# EAGLE library part 057-034- (library 1A-meinLib)
CONNECTOR 34-pin series 057 contact pc board low profile headers
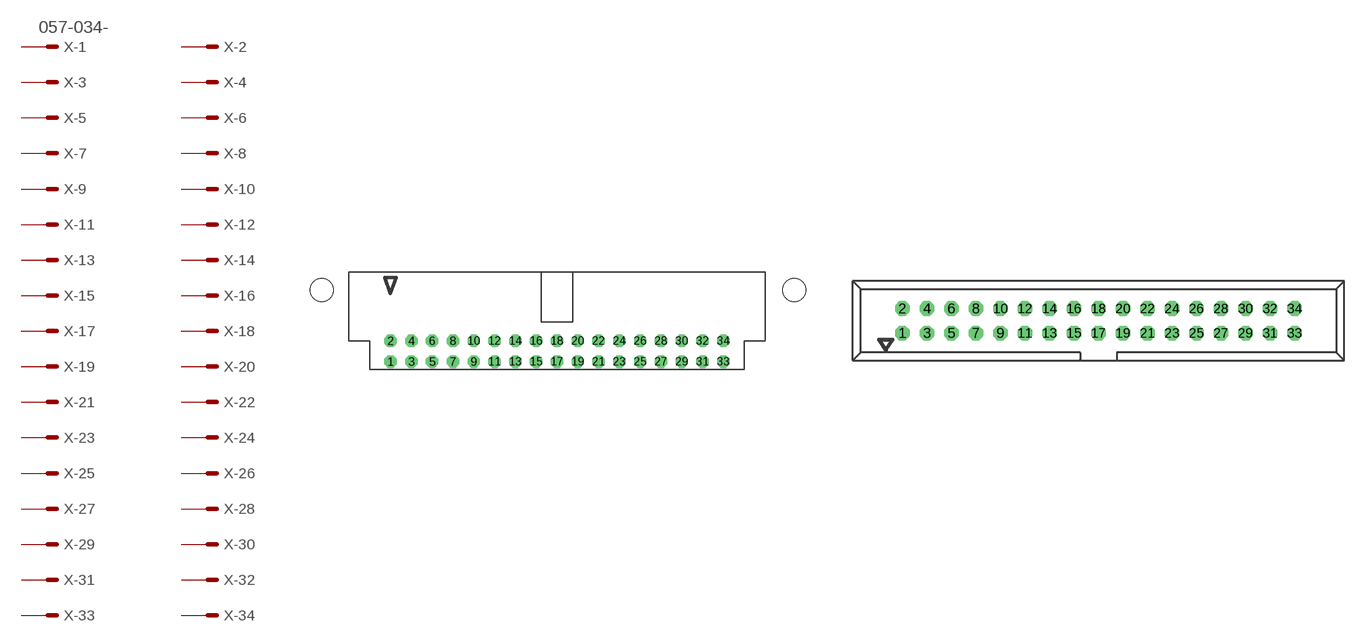
[diagram p391: symbol with the pads of 057-034-0; footprints 057-034-0, 057-034-1]

Designator prefix X; gates -1=MV-1 -2=M-5 -3=M-5 -4=M-5 -5=M-5 -6=M-5 -7=M-5 -8=M-5 -9=M-5 -10=M-5 -11=M-5 -12=M-5 -13=M-5 -14=M-5 -15=M-5 -16=M-5 -17=M-5 -18=M-5 -19=M-5 -20=M-5 -21=M-5 -22=M-5 -23=M-5 -24=M-5 -25=M-5 -26=M-5 -27=M-5 -28=M-5 -29=M-5 -30=M-5 -31=M-5 -32=M-5 -33=M-5 -34=M-5

## 057-034-0  [057-034-0]
1  -1:S  pas
2  -2:S  pas
3  -3:S  pas
4  -4:S  pas
5  -5:S  pas
6  -6:S  pas
7  -7:S  pas
8  -8:S  pas
9  -9:S  pas
10  -10:S  pas
11  -11:S  pas
12  -12:S  pas
13  -13:S  pas
14  -14:S  pas
15  -15:S  pas
16  -16:S  pas
17  -17:S  pas
18  -18:S  pas
19  -19:S  pas
20  -20:S  pas
21  -21:S  pas
22  -22:S  pas
23  -23:S  pas
24  -24:S  pas
25  -25:S  pas
26  -26:S  pas
27  -27:S  pas
28  -28:S  pas
29  -29:S  pas
30  -30:S  pas
31  -31:S  pas
32  -32:S  pas
33  -33:S  pas
34  -34:S  pas

## 057-034-1  [057-034-1]
Pads as for 057-034-0

## Footprint 057-034-0 (pad centres in mm)
CONNECTOR series 057 contact pc board low profile headers angled
drill 1 octagon: 1 -20.32,-5.08; 2 -20.32,-2.54; 3 -17.78,-5.08; 4 -17.78,-2.54; 5 -15.24,-5.08; 6 -15.24,-2.54; 7 -12.7,-5.08; 8 -12.7,-2.54; 9 -10.16,-5.08; 10 -10.16,-2.54; 11 -7.62,-5.08; 12 -7.62,-2.54; 13 -5.08,-5.08; 14 -5.08,-2.54; 15 -2.54,-5.08; 16 -2.54,-2.54; 17 0,-5.08; 18 0,-2.54; 19 2.54,-5.08; 20 2.54,-2.54; 21 5.08,-5.08; 22 5.08,-2.54; 23 7.62,-5.08; 24 7.62,-2.54; 25 10.16,-5.08; 26 10.16,-2.54; 27 12.7,-5.08; 28 12.7,-2.54; 29 15.24,-5.08; 30 15.24,-2.54; 31 17.78,-5.08; 32 17.78,-2.54; 33 20.32,-5.08; 34 20.32,-2.54
hole 2.8 at -28.72,3.66
hole 2.8 at 28.97,3.66

## Footprint 057-034-1 (pad centres in mm)
CONNECTOR series 057 contact pc board low profile headers straight
drill 1 octagon: 1 -20.32,-1.27; 2 -20.32,1.27; 3 -17.78,-1.27; 4 -17.78,1.27; 5 -15.24,-1.27; 6 -15.24,1.27; 7 -12.7,-1.27; 8 -12.7,1.27; 9 -10.16,-1.27; 10 -10.16,1.27; 11 -7.62,-1.27; 12 -7.62,1.27; 13 -5.08,-1.27; 14 -5.08,1.27; 15 -2.54,-1.27; 16 -2.54,1.27; 17 0,-1.27; 18 0,1.27; 19 2.54,-1.27; 20 2.54,1.27; 21 5.08,-1.27; 22 5.08,1.27; 23 7.62,-1.27; 24 7.62,1.27; 25 10.16,-1.27; 26 10.16,1.27; 27 12.7,-1.27; 28 12.7,1.27; 29 15.24,-1.27; 30 15.24,1.27; 31 17.78,-1.27; 32 17.78,1.27; 33 20.32,-1.27; 34 20.32,1.27